# Altium integrated library ElectricCanary_FV1Buddy.IntLib: 1 symbol
Pins are listed as number, name and electrical type; pins without a type are passive.

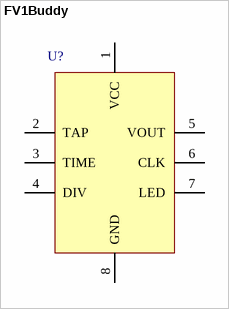
[diagram p0: symbol FV1Buddy]

## FV1Buddy
designator U?  (value not drawn)
Tap Tempo & Clock Module for the Spin FV1 DSP
footprint FV1Buddy (Tap Tempo & Clock Module for the Spin FV1 DSP)
pins: 1 VCC, 2 TAP, 3 TIME, 4 DIV, 5 VOUT, 6 CLK, 7 LED, 8 GND